# Altium integrated library WS-DITV 2.54 mm Compact THT Dip Switch with Raised Actuator.IntLib: 9 symbols
Pins are listed as number, name and electrical type; pins without a type are passive.

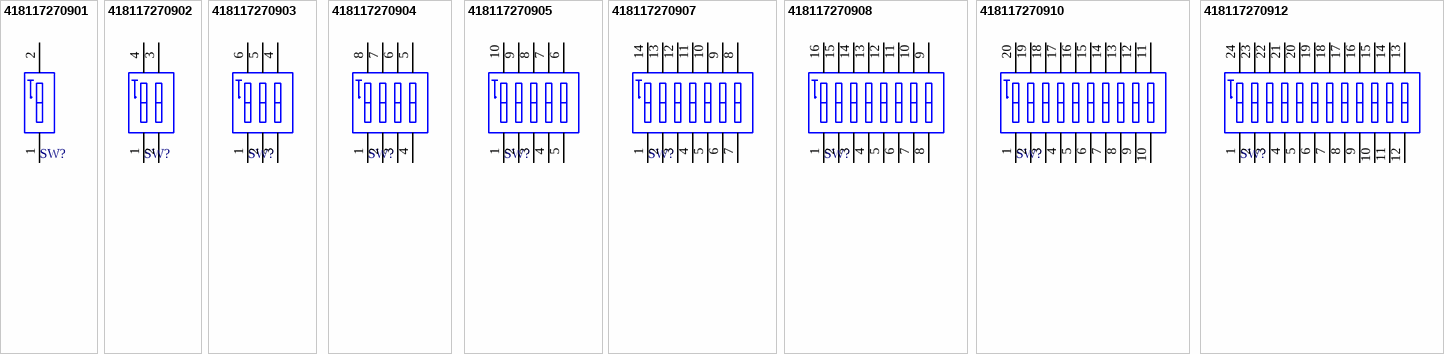
[diagram p0: symbols 418117270901 to 418117270912]

## 418117270901
designator SW?
WS-DITV 2.54 mm Compact THT Dip Switch with Raised Actuator; PartNumber: 418117270901; NoPins: 2; PackageReference: 418117270901; ComponentLink1Description: Manufacturer URL; ComponentLink1URL: http://www.we-online.com; ComponentLink2Description: Datasheet; ComponentLink2URL: http://katalog.we-online.de/em/datasheet/4181172709xx.pdf
footprint 418117270901 (01p, 2.54mm Pitch, Horizontal, Box Type, THT, raised Actuator, red, without Tape, Tube)
pins: 1, 2

## 418117270902
designator SW?
WS-DITV 2.54 mm Compact THT Dip Switch with Raised Actuator; PartNumber: 418117270902; NoPins: 4; PackageReference: 418117270902; ComponentLink1Description: Manufacturer URL; ComponentLink1URL: http://www.we-online.com; ComponentLink2Description: Datasheet; ComponentLink2URL: http://katalog.we-online.de/em/datasheet/4181172709xx.pdf
footprint 418117270902 (02p, 2.54mm Pitch, Horizontal, Box Type, THT, raised Actuator, red, without Tape, Tube)
pins: 1, 2, 3, 4

## 418117270903
designator SW?
WS-DITV 2.54 mm Compact THT Dip Switch with Raised Actuator; PartNumber: 418117270903; NoPins: 6; PackageReference: 418117270903; ComponentLink1Description: Manufacturer URL; ComponentLink1URL: http://www.we-online.com; ComponentLink2Description: Datasheet; ComponentLink2URL: http://katalog.we-online.de/em/datasheet/4181172709xx.pdf
footprint 418117270903 (03p, 2.54mm Pitch, Horizontal, Box Type, THT, raised Actuator, red, without Tape, Tube)
pins: 1, 2, 3, 4, 5, 6

## 418117270904
designator SW?
WS-DITV 2.54 mm Compact THT Dip Switch with Raised Actuator; PartNumber: 418117270904; NoPins: 8; PackageReference: 418117270904; ComponentLink1Description: Manufacturer URL; ComponentLink1URL: http://www.we-online.com; ComponentLink2Description: Datasheet; ComponentLink2URL: http://katalog.we-online.de/em/datasheet/4181172709xx.pdf
footprint 418117270904 (04p, 2.54mm Pitch, Horizontal, Box Type, THT, raised Actuator, red, without Tape, Tube)
pins: 1, 2, 3, 4, 5, 6, 7, 8

## 418117270905
designator SW?
WS-DITV 2.54 mm Compact THT Dip Switch with Raised Actuator; PartNumber: 418117270905; NoPins: 10; PackageReference: 418117270905; ComponentLink1Description: Manufacturer URL; ComponentLink1URL: http://www.we-online.com; ComponentLink2Description: Datasheet; ComponentLink2URL: http://katalog.we-online.de/em/datasheet/4181172709xx.pdf
footprint 418117270905 (05p, 2.54mm Pitch, Horizontal, Box Type, THT, raised Actuator, red, without Tape, Tube)
pins: 1, 2, 3, 4, 5, 6, 7, 8, 9, 10

## 418117270907
designator SW?
WS-DITV 2.54 mm Compact THT Dip Switch with Raised Actuator; PartNumber: 418117270907; NoPins: 14; PackageReference: 418117270907; ComponentLink1Description: Manufacturer URL; ComponentLink1URL: http://www.we-online.com; ComponentLink2Description: Datasheet; ComponentLink2URL: http://katalog.we-online.de/em/datasheet/4181172709xx.pdf
footprint 418117270907 (07p, 2.54mm Pitch, Horizontal, Box Type, THT, raised Actuator, red, without Tape, Tube)
pins: 1, 2, 3, 4, 5, 6, 7, 8, 9, 10, 11, 12, 13, 14

## 418117270908
designator SW?
WS-DITV 2.54 mm Compact THT Dip Switch with Raised Actuator; PartNumber: 418117270908; NoPins: 16; PackageReference: 418117270908; ComponentLink1Description: Manufacturer URL; ComponentLink1URL: http://www.we-online.com; ComponentLink2Description: Datasheet; ComponentLink2URL: http://katalog.we-online.de/em/datasheet/4181172709xx.pdf
footprint 418117270908 (08p, 2.54mm Pitch, Horizontal, Box Type, THT, raised Actuator, red, without Tape, Tube)
pins: 1, 2, 3, 4, 5, 6, 7, 8, 9, 10, 11, 12, 13, 14, 15, 16

## 418117270910
designator SW?
WS-DITV 2.54 mm Compact THT Dip Switch with Raised Actuator; PartNumber: 418117270910; NoPins: 20; PackageReference: 418117270910; ComponentLink1Description: Manufacturer URL; ComponentLink1URL: http://www.we-online.com; ComponentLink2Description: Datasheet; ComponentLink2URL: http://katalog.we-online.de/em/datasheet/4181172709xx.pdf
footprint 418117270910 (10p, 2.54mm Pitch, Horizontal, Box Type, THT, raised Actuator, red, without Tape, Tube)
pins: 1, 2, 3, 4, 5, 6, 7, 8, 9, 10, 11, 12, 13, 14, 15, 16, 17, 18, 19, 20

## 418117270912
designator SW?
WS-DITV 2.54 mm Compact THT Dip Switch with Raised Actuator; PartNumber: 418117270912; NoPins: 24; PackageReference: 418117270912; ComponentLink1Description: Manufacturer URL; ComponentLink1URL: http://www.we-online.com; ComponentLink2Description: Datasheet; ComponentLink2URL: http://katalog.we-online.de/em/datasheet/4181172709xx.pdf
footprint 418117270912 (12p, 2.54mm Pitch, Horizontal, Box Type, THT, raised Actuator, red, without Tape, Tube)
pins: 1, 2, 3, 4, 5, 6, 7, 8, 9, 10, 11, 12, 13, 14, 15, 16, 17, 18, 19, 20, 21, 22, 23, 24